# EAGLE library part IRF3719 (library HermitRetro)
IRF3719 HEXFET Power MOSFET
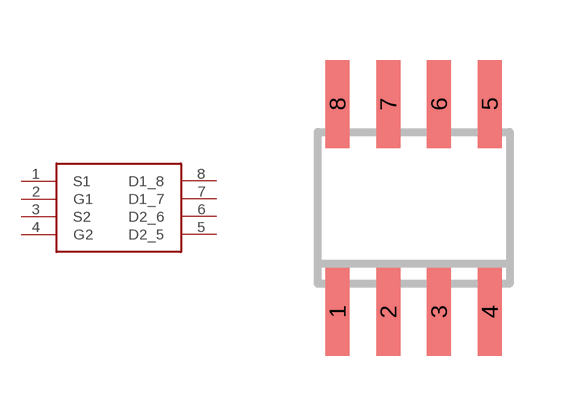
[diagram p15: symbol with the pads of SOIC8; footprint SOIC8]

Designator prefix -

## IRF3719 (UNIT_PRICE: 0.32; VENDOR_ID: RS Components; VENDOR_SKU: 541-0301)  [SOIC8]
1  S1
2  G1
3  S2
4  G2
5  D2_5
6  D2_6
7  D1_7
8  D1_8

## Footprint SOIC8 (pad centres in mm)
Small Outline IC
smd 0.6 x 2.2: 1 -1.905,-2.6; 2 -0.635,-2.6; 3 0.635,-2.6; 4 1.905,-2.6; 5 1.905,2.6; 6 0.635,2.6; 7 -0.635,2.6; 8 -1.905,2.6